# Altium footprint library Connector_PinSocket_1.00mm.PcbLib: 156 footprints (part 2 of 10)
Each footprint in its own frame and in the unit in brackets; x right, y up, seen from the top. Pads: shape width x height; smd on the part's side, far side on the other; paste and mask are expansions set on the pad; w line width, h text height; cw(c..) or ccw(c..) is an arc to the next point about the centre after c.
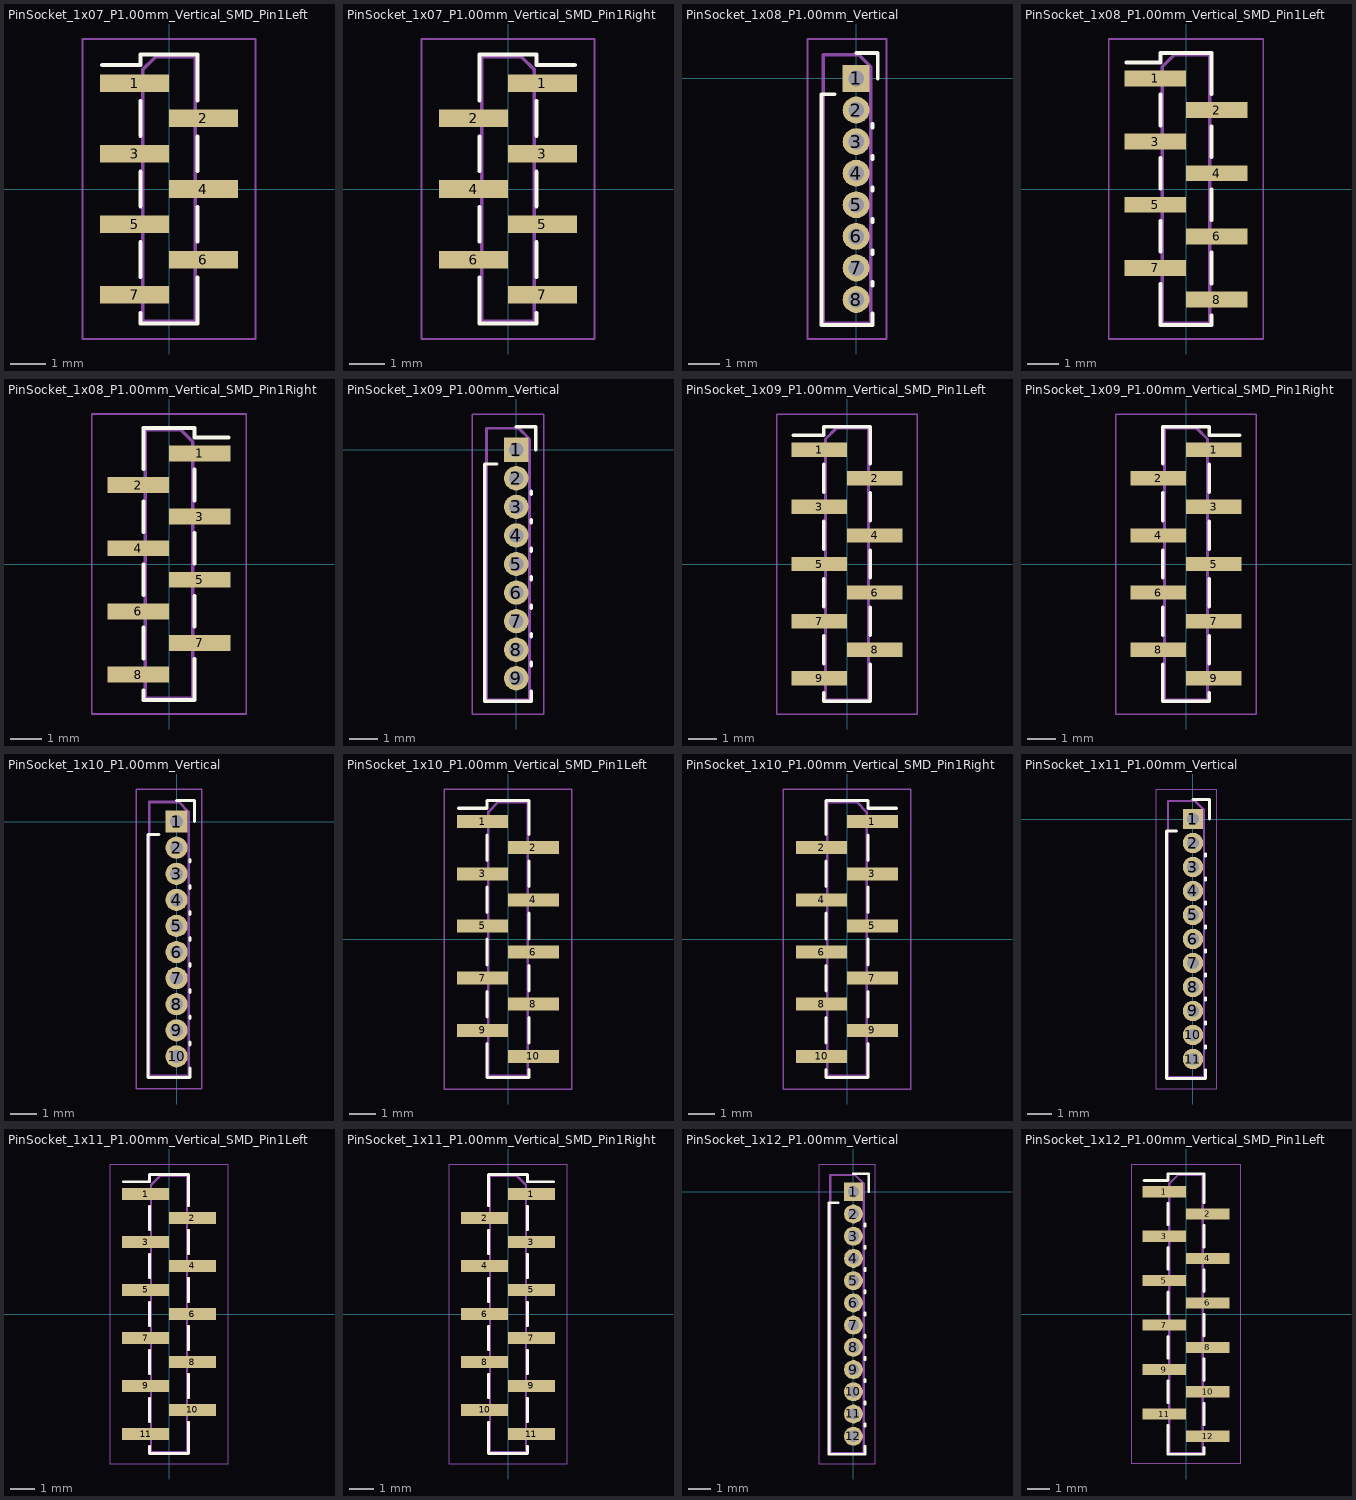
[diagram p1: the footprints below, top view; thin cyan lines are the x and y axes]

## PinSocket_1x07_P1.00mm_Vertical_SMD_Pin1Left [mm]
pads (7):
  rect 1.95x0.5 smd: 1(-0.975,3) 2(0.975,2) 3(-0.975,1) 4(0.975,0) 5(-0.975,-1) 6(0.975,-2) 7(-0.975,-3)
F.SilkS:
  lines w0.12: -1.89,3.51 -0.81,3.51 -0.81,3.81 0.81,3.81 0.81,2.51 ; -0.81,-3.51 -0.81,-3.81 0.81,-3.81 0.81,-2.51 ; -0.81,-2.49 -0.81,-1.51 ; -0.81,-0.49 -0.81,0.49 ; -0.81,1.51 -0.81,2.49 ; 0.81,-1.49 0.81,-0.51 ; 0.81,0.51 0.81,1.49
F.CrtYd:
  lines w0.05: -2.45,-4.25 2.45,-4.25 2.45,4.25 -2.45,4.25 -2.45,-4.25
F.Fab:
  lines w0.1: -0.75,-3.15 -1.45,-3.15 -1.45,-2.85 -0.75,-2.85 ; -0.75,-1.15 -1.45,-1.15 -1.45,-0.85 -0.75,-0.85 ; -0.75,0.85 -1.45,0.85 -1.45,1.15 -0.75,1.15 ; -0.75,2.85 -1.45,2.85 -1.45,3.15 -0.75,3.15 ; 0.75,-2.15 1.45,-2.15 1.45,-1.85 0.75,-1.85 ; 0.75,-0.15 1.45,-0.15 1.45,0.15 0.75,0.15 ; 0.75,1.85 1.45,1.85 1.45,2.15 0.75,2.15 ; -0.75,-3.75 0.75,-3.75 0.75,3.75 -0.375,3.75 -0.75,3.375 -0.75,-3.75
  text "'.Designator'" at 0.761,-3.647 h0.9

## PinSocket_1x07_P1.00mm_Vertical_SMD_Pin1Right [mm]
pads (7):
  rect 1.95x0.5 smd: 1(0.975,3) 2(-0.975,2) 3(0.975,1) 4(-0.975,0) 5(0.975,-1) 6(-0.975,-2) 7(0.975,-3)
F.SilkS:
  lines w0.12: -0.81,-2.51 -0.81,-3.81 0.81,-3.81 0.81,-3.51 ; -0.81,-1.49 -0.81,-0.51 ; -0.81,0.51 -0.81,1.49 ; -0.81,2.51 -0.81,3.81 0.81,3.81 0.81,3.51 1.89,3.51 ; 0.81,-2.49 0.81,-1.51 ; 0.81,-0.49 0.81,0.49 ; 0.81,1.51 0.81,2.49
F.CrtYd:
  lines w0.05: -2.45,-4.25 2.45,-4.25 2.45,4.25 -2.45,4.25 -2.45,-4.25
F.Fab:
  lines w0.1: -0.75,-2.15 -1.45,-2.15 -1.45,-1.85 -0.75,-1.85 ; -0.75,-0.15 -1.45,-0.15 -1.45,0.15 -0.75,0.15 ; -0.75,1.85 -1.45,1.85 -1.45,2.15 -0.75,2.15 ; 0.75,-3.15 1.45,-3.15 1.45,-2.85 0.75,-2.85 ; 0.75,-1.15 1.45,-1.15 1.45,-0.85 0.75,-0.85 ; 0.75,0.85 1.45,0.85 1.45,1.15 0.75,1.15 ; 0.75,2.85 1.45,2.85 1.45,3.15 0.75,3.15 ; -0.75,-3.75 0.75,-3.75 0.75,3.375 0.375,3.75 -0.75,3.75 -0.75,-3.75
  text "'.Designator'" at 0.761,-3.647 h0.9

## PinSocket_1x08_P1.00mm_Vertical [mm]
pads (8):
  rect 0.85x0.85 hole 0.5: 1(0,0)
  rrect100% 0.85x0.85 hole 0.5: 2(0,-1) 3(0,-2) 4(0,-3) 5(0,-4) 6(0,-5) 7(0,-6) 8(0,-7)
F.SilkS:
  lines w0.12: -0.685,-0.5 -1.1,-0.5 -1.1,-7.81 0.52,-7.81 0.52,-7.446 ; 0,0.81 0.685,0.81 0.685,0 ; 0.52,-6.554 0.52,-6.446 ; 0.52,-5.554 0.52,-5.446 ; 0.52,-4.554 0.52,-4.446 ; 0.52,-3.554 0.52,-3.446 ; 0.52,-2.554 0.52,-2.446 ; 0.52,-1.554 0.52,-1.446
F.CrtYd:
  lines w0.05: -1.54,-8.25 -1.54,1.25 0.96,1.25 0.96,-8.25 -1.54,-8.25
F.Fab:
  lines w0.1: -1.04,-7.75 0.46,-7.75 0.46,0.375 0.085,0.75 -1.04,0.75 -1.04,-7.75
  text "'.Designator'" at 0.471,-7.147 h0.9

## PinSocket_1x08_P1.00mm_Vertical_SMD_Pin1Left [mm]
pads (8):
  rect 1.95x0.5 smd: 1(-0.975,3.5) 2(0.975,2.5) 3(-0.975,1.5) 4(0.975,0.5) 5(-0.975,-0.5) 6(0.975,-1.5) 7(-0.975,-2.5) 8(0.975,-3.5)
F.SilkS:
  lines w0.12: -1.89,4.01 -0.81,4.01 -0.81,4.31 0.81,4.31 0.81,3.01 ; -0.81,-3.01 -0.81,-4.31 0.81,-4.31 0.81,-4.01 ; -0.81,-1.99 -0.81,-1.01 ; -0.81,0.01 -0.81,0.99 ; -0.81,2.01 -0.81,2.99 ; 0.81,-2.99 0.81,-2.01 ; 0.81,-0.99 0.81,-0.01 ; 0.81,1.01 0.81,1.99
F.CrtYd:
  lines w0.05: -2.45,-4.75 -2.45,4.75 2.45,4.75 2.45,-4.75 -2.45,-4.75
F.Fab:
  lines w0.1: -0.75,-2.65 -1.45,-2.65 -1.45,-2.35 -0.75,-2.35 ; -0.75,-0.65 -1.45,-0.65 -1.45,-0.35 -0.75,-0.35 ; -0.75,1.35 -1.45,1.35 -1.45,1.65 -0.75,1.65 ; -0.75,3.35 -1.45,3.35 -1.45,3.65 -0.75,3.65 ; 0.75,-3.65 1.45,-3.65 1.45,-3.35 0.75,-3.35 ; 0.75,-1.65 1.45,-1.65 1.45,-1.35 0.75,-1.35 ; 0.75,0.35 1.45,0.35 1.45,0.65 0.75,0.65 ; 0.75,2.35 1.45,2.35 1.45,2.65 0.75,2.65 ; -0.75,-4.25 -0.75,3.875 -0.375,4.25 0.75,4.25 0.75,-4.25 -0.75,-4.25
  text "'.Designator'" at 0.761,-3.647 h0.9

## PinSocket_1x08_P1.00mm_Vertical_SMD_Pin1Right [mm]
pads (8):
  rect 1.95x0.5 smd: 1(0.975,3.5) 2(-0.975,2.5) 3(0.975,1.5) 4(-0.975,0.5) 5(0.975,-0.5) 6(-0.975,-1.5) 7(0.975,-2.5) 8(-0.975,-3.5)
F.SilkS:
  lines w0.12: -0.81,-4.01 -0.81,-4.31 0.81,-4.31 0.81,-3.01 ; -0.81,-2.99 -0.81,-2.01 ; -0.81,-0.99 -0.81,-0.01 ; -0.81,1.01 -0.81,1.99 ; -0.81,3.01 -0.81,4.31 0.81,4.31 0.81,4.01 1.89,4.01 ; 0.81,-1.99 0.81,-1.01 ; 0.81,0.01 0.81,0.99 ; 0.81,2.01 0.81,2.99
F.CrtYd:
  lines w0.05: -2.45,-4.75 2.45,-4.75 2.45,4.75 -2.45,4.75 -2.45,-4.75
F.Fab:
  lines w0.1: -0.75,-3.65 -1.45,-3.65 -1.45,-3.35 -0.75,-3.35 ; -0.75,-1.65 -1.45,-1.65 -1.45,-1.35 -0.75,-1.35 ; -0.75,0.35 -1.45,0.35 -1.45,0.65 -0.75,0.65 ; -0.75,2.35 -1.45,2.35 -1.45,2.65 -0.75,2.65 ; 0.75,-2.65 1.45,-2.65 1.45,-2.35 0.75,-2.35 ; 0.75,-0.65 1.45,-0.65 1.45,-0.35 0.75,-0.35 ; 0.75,1.35 1.45,1.35 1.45,1.65 0.75,1.65 ; 0.75,3.35 1.45,3.35 1.45,3.65 0.75,3.65 ; -0.75,-4.25 0.75,-4.25 0.75,3.875 0.375,4.25 -0.75,4.25 -0.75,-4.25
  text "'.Designator'" at 0.761,-3.647 h0.9

## PinSocket_1x09_P1.00mm_Vertical [mm]
pads (9):
  rect 0.85x0.85 hole 0.5: 1(0,0)
  rrect100% 0.85x0.85 hole 0.5: 2(0,-1) 3(0,-2) 4(0,-3) 5(0,-4) 6(0,-5) 7(0,-6) 8(0,-7) 9(0,-8)
F.SilkS:
  lines w0.12: -0.685,-0.5 -1.1,-0.5 -1.1,-8.81 0.52,-8.81 0.52,-8.446 ; 0,0.81 0.685,0.81 0.685,0 ; 0.52,-7.554 0.52,-7.446 ; 0.52,-6.554 0.52,-6.446 ; 0.52,-5.554 0.52,-5.446 ; 0.52,-4.554 0.52,-4.446 ; 0.52,-3.554 0.52,-3.446 ; 0.52,-2.554 0.52,-2.446 ; 0.52,-1.554 0.52,-1.446
F.CrtYd:
  lines w0.05: -1.54,-9.25 -1.54,1.25 0.96,1.25 0.96,-9.25 -1.54,-9.25
F.Fab:
  lines w0.1: -1.04,-8.75 0.46,-8.75 0.46,0.375 0.085,0.75 -1.04,0.75 -1.04,-8.75
  text "'.Designator'" at 0.471,-7.647 h0.9

## PinSocket_1x09_P1.00mm_Vertical_SMD_Pin1Left [mm]
pads (9):
  rect 1.95x0.5 smd: 1(-0.975,4) 2(0.975,3) 3(-0.975,2) 4(0.975,1) 5(-0.975,0) 6(0.975,-1) 7(-0.975,-2) 8(0.975,-3) 9(-0.975,-4)
F.SilkS:
  lines w0.12: -1.89,4.51 -0.81,4.51 -0.81,4.81 0.81,4.81 0.81,3.51 ; -0.81,-4.51 -0.81,-4.81 0.81,-4.81 0.81,-3.51 ; -0.81,-3.49 -0.81,-2.51 ; -0.81,-1.49 -0.81,-0.51 ; -0.81,0.51 -0.81,1.49 ; -0.81,2.51 -0.81,3.49 ; 0.81,-2.49 0.81,-1.51 ; 0.81,-0.49 0.81,0.49 ; 0.81,1.51 0.81,2.49
F.CrtYd:
  lines w0.05: -2.45,-5.25 2.45,-5.25 2.45,5.25 -2.45,5.25 -2.45,-5.25
F.Fab:
  lines w0.1: -0.75,-4.15 -1.45,-4.15 -1.45,-3.85 -0.75,-3.85 ; -0.75,-2.15 -1.45,-2.15 -1.45,-1.85 -0.75,-1.85 ; -0.75,-0.15 -1.45,-0.15 -1.45,0.15 -0.75,0.15 ; -0.75,1.85 -1.45,1.85 -1.45,2.15 -0.75,2.15 ; -0.75,3.85 -1.45,3.85 -1.45,4.15 -0.75,4.15 ; 0.75,-3.15 1.45,-3.15 1.45,-2.85 0.75,-2.85 ; 0.75,-1.15 1.45,-1.15 1.45,-0.85 0.75,-0.85 ; 0.75,0.85 1.45,0.85 1.45,1.15 0.75,1.15 ; 0.75,2.85 1.45,2.85 1.45,3.15 0.75,3.15 ; -0.75,-4.75 0.75,-4.75 0.75,4.75 -0.375,4.75 -0.75,4.375 -0.75,-4.75
  text "'.Designator'" at 0.761,-3.647 h0.9

## PinSocket_1x09_P1.00mm_Vertical_SMD_Pin1Right [mm]
pads (9):
  rect 1.95x0.5 smd: 1(0.975,4) 2(-0.975,3) 3(0.975,2) 4(-0.975,1) 5(0.975,0) 6(-0.975,-1) 7(0.975,-2) 8(-0.975,-3) 9(0.975,-4)
F.SilkS:
  lines w0.12: -0.81,-3.51 -0.81,-4.81 0.81,-4.81 0.81,-4.51 ; -0.81,-2.49 -0.81,-1.51 ; -0.81,-0.49 -0.81,0.49 ; -0.81,1.51 -0.81,2.49 ; -0.81,3.51 -0.81,4.81 0.81,4.81 0.81,4.51 1.89,4.51 ; 0.81,-3.49 0.81,-2.51 ; 0.81,-1.49 0.81,-0.51 ; 0.81,0.51 0.81,1.49 ; 0.81,2.51 0.81,3.49
F.CrtYd:
  lines w0.05: -2.45,-5.25 -2.45,5.25 2.45,5.25 2.45,-5.25 -2.45,-5.25
F.Fab:
  lines w0.1: -0.75,-3.15 -1.45,-3.15 -1.45,-2.85 -0.75,-2.85 ; -0.75,-1.15 -1.45,-1.15 -1.45,-0.85 -0.75,-0.85 ; -0.75,0.85 -1.45,0.85 -1.45,1.15 -0.75,1.15 ; -0.75,2.85 -1.45,2.85 -1.45,3.15 -0.75,3.15 ; 0.75,-4.15 1.45,-4.15 1.45,-3.85 0.75,-3.85 ; 0.75,-2.15 1.45,-2.15 1.45,-1.85 0.75,-1.85 ; 0.75,-0.15 1.45,-0.15 1.45,0.15 0.75,0.15 ; 0.75,1.85 1.45,1.85 1.45,2.15 0.75,2.15 ; 0.75,3.85 1.45,3.85 1.45,4.15 0.75,4.15 ; -0.75,-4.75 0.75,-4.75 0.75,4.375 0.375,4.75 -0.75,4.75 -0.75,-4.75
  text "'.Designator'" at 0.761,-3.647 h0.9

## PinSocket_1x10_P1.00mm_Vertical [mm]
pads (10):
  rect 0.85x0.85 hole 0.5: 1(0,0)
  rrect100% 0.85x0.85 hole 0.5: 2(0,-1) 3(0,-2) 4(0,-3) 5(0,-4) 6(0,-5) 7(0,-6) 8(0,-7) 9(0,-8) 10(0,-9)
F.SilkS:
  lines w0.12: -0.685,-0.5 -1.1,-0.5 -1.1,-9.81 0.52,-9.81 0.52,-9.446 ; 0,0.81 0.685,0.81 0.685,0 ; 0.52,-8.554 0.52,-8.446 ; 0.52,-7.554 0.52,-7.446 ; 0.52,-6.554 0.52,-6.446 ; 0.52,-5.554 0.52,-5.446 ; 0.52,-4.554 0.52,-4.446 ; 0.52,-3.554 0.52,-3.446 ; 0.52,-2.554 0.52,-2.446 ; 0.52,-1.554 0.52,-1.446
F.CrtYd:
  lines w0.05: -1.54,-10.25 -1.54,1.25 0.96,1.25 0.96,-10.25 -1.54,-10.25
F.Fab:
  lines w0.1: -1.04,-9.75 -1.04,0.75 0.085,0.75 0.46,0.375 0.46,-9.75 -1.04,-9.75
  text "'.Designator'" at 0.471,-8.147 h0.9

## PinSocket_1x10_P1.00mm_Vertical_SMD_Pin1Left [mm]
pads (10):
  rect 1.95x0.5 smd: 1(-0.975,4.5) 2(0.975,3.5) 3(-0.975,2.5) 4(0.975,1.5) 5(-0.975,0.5) 6(0.975,-0.5) 7(-0.975,-1.5) 8(0.975,-2.5) 9(-0.975,-3.5) 10(0.975,-4.5)
F.SilkS:
  lines w0.12: -1.89,5.01 -0.81,5.01 -0.81,5.31 0.81,5.31 0.81,4.01 ; -0.81,-4.01 -0.81,-5.31 0.81,-5.31 0.81,-5.01 ; -0.81,-2.99 -0.81,-2.01 ; -0.81,-0.99 -0.81,-0.01 ; -0.81,1.01 -0.81,1.99 ; -0.81,3.01 -0.81,3.99 ; 0.81,-3.99 0.81,-3.01 ; 0.81,-1.99 0.81,-1.01 ; 0.81,0.01 0.81,0.99 ; 0.81,2.01 0.81,2.99
F.CrtYd:
  lines w0.05: -2.45,-5.75 -2.45,5.75 2.45,5.75 2.45,-5.75 -2.45,-5.75
F.Fab:
  lines w0.1: -0.75,-3.65 -1.45,-3.65 -1.45,-3.35 -0.75,-3.35 ; -0.75,-1.65 -1.45,-1.65 -1.45,-1.35 -0.75,-1.35 ; -0.75,0.35 -1.45,0.35 -1.45,0.65 -0.75,0.65 ; -0.75,2.35 -1.45,2.35 -1.45,2.65 -0.75,2.65 ; -0.75,4.35 -1.45,4.35 -1.45,4.65 -0.75,4.65 ; 0.75,-4.65 1.45,-4.65 1.45,-4.35 0.75,-4.35 ; 0.75,-2.65 1.45,-2.65 1.45,-2.35 0.75,-2.35 ; 0.75,-0.65 1.45,-0.65 1.45,-0.35 0.75,-0.35 ; 0.75,1.35 1.45,1.35 1.45,1.65 0.75,1.65 ; 0.75,3.35 1.45,3.35 1.45,3.65 0.75,3.65 ; -0.75,-5.25 -0.75,4.875 -0.375,5.25 0.75,5.25 0.75,-5.25 -0.75,-5.25
  text "'.Designator'" at 0.761,-3.647 h0.9

## PinSocket_1x10_P1.00mm_Vertical_SMD_Pin1Right [mm]
pads (10):
  rect 1.95x0.5 smd: 1(0.975,4.5) 2(-0.975,3.5) 3(0.975,2.5) 4(-0.975,1.5) 5(0.975,0.5) 6(-0.975,-0.5) 7(0.975,-1.5) 8(-0.975,-2.5) 9(0.975,-3.5) 10(-0.975,-4.5)
F.SilkS:
  lines w0.12: -0.81,-5.01 -0.81,-5.31 0.81,-5.31 0.81,-4.01 ; -0.81,-3.99 -0.81,-3.01 ; -0.81,-1.99 -0.81,-1.01 ; -0.81,0.01 -0.81,0.99 ; -0.81,2.01 -0.81,2.99 ; -0.81,4.01 -0.81,5.31 0.81,5.31 0.81,5.01 1.89,5.01 ; 0.81,-2.99 0.81,-2.01 ; 0.81,-0.99 0.81,-0.01 ; 0.81,1.01 0.81,1.99 ; 0.81,3.01 0.81,3.99
F.CrtYd:
  lines w0.05: -2.45,-5.75 2.45,-5.75 2.45,5.75 -2.45,5.75 -2.45,-5.75
F.Fab:
  lines w0.1: -0.75,-4.65 -1.45,-4.65 -1.45,-4.35 -0.75,-4.35 ; -0.75,-2.65 -1.45,-2.65 -1.45,-2.35 -0.75,-2.35 ; -0.75,-0.65 -1.45,-0.65 -1.45,-0.35 -0.75,-0.35 ; -0.75,1.35 -1.45,1.35 -1.45,1.65 -0.75,1.65 ; -0.75,3.35 -1.45,3.35 -1.45,3.65 -0.75,3.65 ; 0.75,-3.65 1.45,-3.65 1.45,-3.35 0.75,-3.35 ; 0.75,-1.65 1.45,-1.65 1.45,-1.35 0.75,-1.35 ; 0.75,0.35 1.45,0.35 1.45,0.65 0.75,0.65 ; 0.75,2.35 1.45,2.35 1.45,2.65 0.75,2.65 ; 0.75,4.35 1.45,4.35 1.45,4.65 0.75,4.65 ; -0.75,-5.25 0.75,-5.25 0.75,4.875 0.375,5.25 -0.75,5.25 -0.75,-5.25
  text "'.Designator'" at 0.761,-3.647 h0.9

## PinSocket_1x11_P1.00mm_Vertical [mm]
pads (11):
  rect 0.85x0.85 hole 0.5: 1(0,0)
  rrect100% 0.85x0.85 hole 0.5: 2(0,-1) 3(0,-2) 4(0,-3) 5(0,-4) 6(0,-5) 7(0,-6) 8(0,-7) 9(0,-8) 10(0,-9) 11(0,-10)
F.SilkS:
  lines w0.12: -0.685,-0.5 -1.1,-0.5 -1.1,-10.81 0.52,-10.81 0.52,-10.446 ; 0,0.81 0.685,0.81 0.685,0 ; 0.52,-9.554 0.52,-9.446 ; 0.52,-8.554 0.52,-8.446 ; 0.52,-7.554 0.52,-7.446 ; 0.52,-6.554 0.52,-6.446 ; 0.52,-5.554 0.52,-5.446 ; 0.52,-4.554 0.52,-4.446 ; 0.52,-3.554 0.52,-3.446 ; 0.52,-2.554 0.52,-2.446 ; 0.52,-1.554 0.52,-1.446
F.CrtYd:
  lines w0.05: -1.54,-11.25 -1.54,1.25 0.96,1.25 0.96,-11.25 -1.54,-11.25
F.Fab:
  lines w0.1: -1.04,-10.75 -1.04,0.75 0.085,0.75 0.46,0.375 0.46,-10.75 -1.04,-10.75
  text "'.Designator'" at 0.471,-8.647 h0.9

## PinSocket_1x11_P1.00mm_Vertical_SMD_Pin1Left [mm]
pads (11):
  rect 1.95x0.5 smd: 1(-0.975,5) 2(0.975,4) 3(-0.975,3) 4(0.975,2) 5(-0.975,1) 6(0.975,0) 7(-0.975,-1) 8(0.975,-2) 9(-0.975,-3) 10(0.975,-4) 11(-0.975,-5)
F.SilkS:
  lines w0.12: -1.89,5.51 -0.81,5.51 -0.81,5.81 0.81,5.81 0.81,4.51 ; -0.81,-5.51 -0.81,-5.81 0.81,-5.81 0.81,-4.51 ; -0.81,-4.49 -0.81,-3.51 ; -0.81,-2.49 -0.81,-1.51 ; -0.81,-0.49 -0.81,0.49 ; -0.81,1.51 -0.81,2.49 ; -0.81,3.51 -0.81,4.49 ; 0.81,-3.49 0.81,-2.51 ; 0.81,-1.49 0.81,-0.51 ; 0.81,0.51 0.81,1.49 ; 0.81,2.51 0.81,3.49
F.CrtYd:
  lines w0.05: -2.45,-6.25 -2.45,6.25 2.45,6.25 2.45,-6.25 -2.45,-6.25
F.Fab:
  lines w0.1: -0.75,-5.15 -1.45,-5.15 -1.45,-4.85 -0.75,-4.85 ; -0.75,-3.15 -1.45,-3.15 -1.45,-2.85 -0.75,-2.85 ; -0.75,-1.15 -1.45,-1.15 -1.45,-0.85 -0.75,-0.85 ; -0.75,0.85 -1.45,0.85 -1.45,1.15 -0.75,1.15 ; -0.75,2.85 -1.45,2.85 -1.45,3.15 -0.75,3.15 ; -0.75,4.85 -1.45,4.85 -1.45,5.15 -0.75,5.15 ; 0.75,-4.15 1.45,-4.15 1.45,-3.85 0.75,-3.85 ; 0.75,-2.15 1.45,-2.15 1.45,-1.85 0.75,-1.85 ; 0.75,-0.15 1.45,-0.15 1.45,0.15 0.75,0.15 ; 0.75,1.85 1.45,1.85 1.45,2.15 0.75,2.15 ; 0.75,3.85 1.45,3.85 1.45,4.15 0.75,4.15 ; -0.75,-5.75 0.75,-5.75 0.75,5.75 -0.375,5.75 -0.75,5.375 -0.75,-5.75
  text "'.Designator'" at 0.761,-3.647 h0.9

## PinSocket_1x11_P1.00mm_Vertical_SMD_Pin1Right [mm]
pads (11):
  rect 1.95x0.5 smd: 1(0.975,5) 2(-0.975,4) 3(0.975,3) 4(-0.975,2) 5(0.975,1) 6(-0.975,0) 7(0.975,-1) 8(-0.975,-2) 9(0.975,-3) 10(-0.975,-4) 11(0.975,-5)
F.SilkS:
  lines w0.12: -0.81,-4.51 -0.81,-5.81 0.81,-5.81 0.81,-5.51 ; -0.81,-3.49 -0.81,-2.51 ; -0.81,-1.49 -0.81,-0.51 ; -0.81,0.51 -0.81,1.49 ; -0.81,2.51 -0.81,3.49 ; -0.81,4.51 -0.81,5.81 0.81,5.81 0.81,5.51 1.89,5.51 ; 0.81,-4.49 0.81,-3.51 ; 0.81,-2.49 0.81,-1.51 ; 0.81,-0.49 0.81,0.49 ; 0.81,1.51 0.81,2.49 ; 0.81,3.51 0.81,4.49
F.CrtYd:
  lines w0.05: -2.45,-6.25 -2.45,6.25 2.45,6.25 2.45,-6.25 -2.45,-6.25
F.Fab:
  lines w0.1: -0.75,-4.15 -1.45,-4.15 -1.45,-3.85 -0.75,-3.85 ; -0.75,-2.15 -1.45,-2.15 -1.45,-1.85 -0.75,-1.85 ; -0.75,-0.15 -1.45,-0.15 -1.45,0.15 -0.75,0.15 ; -0.75,1.85 -1.45,1.85 -1.45,2.15 -0.75,2.15 ; -0.75,3.85 -1.45,3.85 -1.45,4.15 -0.75,4.15 ; 0.75,-5.15 1.45,-5.15 1.45,-4.85 0.75,-4.85 ; 0.75,-3.15 1.45,-3.15 1.45,-2.85 0.75,-2.85 ; 0.75,-1.15 1.45,-1.15 1.45,-0.85 0.75,-0.85 ; 0.75,0.85 1.45,0.85 1.45,1.15 0.75,1.15 ; 0.75,2.85 1.45,2.85 1.45,3.15 0.75,3.15 ; 0.75,4.85 1.45,4.85 1.45,5.15 0.75,5.15 ; -0.75,-5.75 -0.75,5.75 0.375,5.75 0.75,5.375 0.75,-5.75 -0.75,-5.75
  text "'.Designator'" at 0.761,-3.647 h0.9

## PinSocket_1x12_P1.00mm_Vertical [mm]
pads (12):
  rect 0.85x0.85 hole 0.5: 1(0,0)
  rrect100% 0.85x0.85 hole 0.5: 2(0,-1) 3(0,-2) 4(0,-3) 5(0,-4) 6(0,-5) 7(0,-6) 8(0,-7) 9(0,-8) 10(0,-9) 11(0,-10) 12(0,-11)
F.SilkS:
  lines w0.12: -0.685,-0.5 -1.1,-0.5 -1.1,-11.81 0.52,-11.81 0.52,-11.446 ; 0,0.81 0.685,0.81 0.685,0 ; 0.52,-10.554 0.52,-10.446 ; 0.52,-9.554 0.52,-9.446 ; 0.52,-8.554 0.52,-8.446 ; 0.52,-7.554 0.52,-7.446 ; 0.52,-6.554 0.52,-6.446 ; 0.52,-5.554 0.52,-5.446 ; 0.52,-4.554 0.52,-4.446 ; 0.52,-3.554 0.52,-3.446 ; 0.52,-2.554 0.52,-2.446 ; 0.52,-1.554 0.52,-1.446
F.CrtYd:
  lines w0.05: -1.54,-12.25 0.96,-12.25 0.96,1.25 -1.54,1.25 -1.54,-12.25
F.Fab:
  lines w0.1: -1.04,-11.75 -1.04,0.75 0.085,0.75 0.46,0.375 0.46,-11.75 -1.04,-11.75
  text "'.Designator'" at 0.471,-9.147 h0.9

## PinSocket_1x12_P1.00mm_Vertical_SMD_Pin1Left [mm]
pads (12):
  rect 1.95x0.5 smd: 1(-0.975,5.5) 2(0.975,4.5) 3(-0.975,3.5) 4(0.975,2.5) 5(-0.975,1.5) 6(0.975,0.5) 7(-0.975,-0.5) 8(0.975,-1.5) 9(-0.975,-2.5) 10(0.975,-3.5) 11(-0.975,-4.5) 12(0.975,-5.5)
F.SilkS:
  lines w0.12: -1.89,6.01 -0.81,6.01 -0.81,6.31 0.81,6.31 0.81,5.01 ; -0.81,-5.01 -0.81,-6.31 0.81,-6.31 0.81,-6.01 ; -0.81,-3.99 -0.81,-3.01 ; -0.81,-1.99 -0.81,-1.01 ; -0.81,0.01 -0.81,0.99 ; -0.81,2.01 -0.81,2.99 ; -0.81,4.01 -0.81,4.99 ; 0.81,-4.99 0.81,-4.01 ; 0.81,-2.99 0.81,-2.01 ; 0.81,-0.99 0.81,-0.01 ; 0.81,1.01 0.81,1.99 ; 0.81,3.01 0.81,3.99
F.CrtYd:
  lines w0.05: -2.45,-6.75 2.45,-6.75 2.45,6.75 -2.45,6.75 -2.45,-6.75
F.Fab:
  lines w0.1: -0.75,-4.65 -1.45,-4.65 -1.45,-4.35 -0.75,-4.35 ; -0.75,-2.65 -1.45,-2.65 -1.45,-2.35 -0.75,-2.35 ; -0.75,-0.65 -1.45,-0.65 -1.45,-0.35 -0.75,-0.35 ; -0.75,1.35 -1.45,1.35 -1.45,1.65 -0.75,1.65 ; -0.75,3.35 -1.45,3.35 -1.45,3.65 -0.75,3.65 ; -0.75,5.35 -1.45,5.35 -1.45,5.65 -0.75,5.65 ; 0.75,-5.65 1.45,-5.65 1.45,-5.35 0.75,-5.35 ; 0.75,-3.65 1.45,-3.65 1.45,-3.35 0.75,-3.35 ; 0.75,-1.65 1.45,-1.65 1.45,-1.35 0.75,-1.35 ; 0.75,0.35 1.45,0.35 1.45,0.65 0.75,0.65 ; 0.75,2.35 1.45,2.35 1.45,2.65 0.75,2.65 ; 0.75,4.35 1.45,4.35 1.45,4.65 0.75,4.65 ; -0.75,-6.25 0.75,-6.25 0.75,6.25 -0.375,6.25 -0.75,5.875 -0.75,-6.25
  text "'.Designator'" at 0.761,-3.647 h0.9